# Altium footprint library PG-TDSON-8-4.PcbLib: 1 footprints
Each footprint in its own frame and in the unit in brackets; x right, y up, seen from the top. Pads: shape width x height; smd on the part's side, far side on the other; paste and mask are expansions set on the pad; w line width, h text height; cw(c..) or ccw(c..) is an arc to the next point about the centre after c.
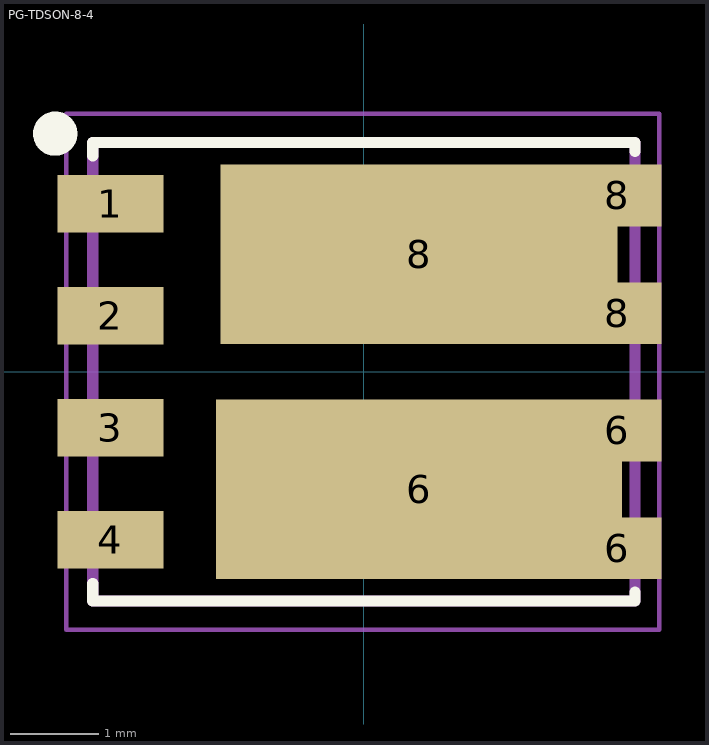
[diagram p0: the footprint, top view; thin cyan lines are the x and y axes]

## PG-TDSON-8-4 [mm] "Infineon specific mosfet array footprint"
pads (10):
  rect 1.2x0.65 smd paste-0.1: 1(-2.875,1.905) 2(-2.875,0.635) 3(-2.875,-0.635) 4(-2.875,-1.905)
  rect 4.6x2.035 smd paste-3: 6(0.625,-1.332)
  rect 1x0.7 smd paste-0.1: 6(2.875,-2) 6(2.875,-0.665) 8(2.875,0.665) 8(2.875,2)
  rect 4.5x2.035 smd paste-3: 8(0.625,1.332)
Top Overlay:
  circle w0.3: c-3.5,2.7 r0.1
  lines w0.127: -3.075,-2.4 -3.075,-2.6 3.075,-2.6 3.075,-2.5 ; -3.075,2.45 -3.075,2.6 3.075,2.6 3.075,2.5
Top Paste:
  rectangle: -0.916,1.553 -0.316,2.153
  rectangle: -0.916,0.553 -0.316,1.153
  rectangle: 1.284,0.553 1.884,1.153
  rectangle: 0.184,0.553 0.784,1.153
  rectangle: 0.184,1.553 0.784,2.153
  rectangle: 1.284,1.553 1.884,2.153
  rectangle: -0.9,-1.1 -0.3,-0.5
  rectangle: -0.9,-2.1 -0.3,-1.5
  rectangle: 1.3,-2.1 1.9,-1.5
  rectangle: 0.2,-2.1 0.8,-1.5
  rectangle: 0.2,-1.1 0.8,-0.5
  rectangle: 1.3,-1.1 1.9,-0.5
Mechanical 4:
  circle w0.3: c-2.55,1.95 r0.1
  circle w0.3: c-2.55,1.95 r0.1
  lines w0.127: -3.075,-2.6 -3.075,2.6 ; -3.075,-2.6 3.075,-2.6 ; -3.075,-2.6 -3.075,2.6 ; -3.075,-2.6 3.075,-2.6 ; -3.075,2.6 3.075,2.6 ; -3.075,2.6 3.075,2.6 ; 3.075,-2.6 3.075,2.6 ; 3.075,-2.6 3.075,2.6
Mechanical 16:
  lines w0.05: -3.375,-2.925 3.35,-2.925 3.35,2.925 -3.375,2.925 -3.375,-2.925
3D body "TDSON-8-4.STEP": height 1.01, standoff 0, extent -3.125,-2.695 3.025,2.695